# EAGLE library part MSP430FR6989LAUNCHPAD (library stephen)
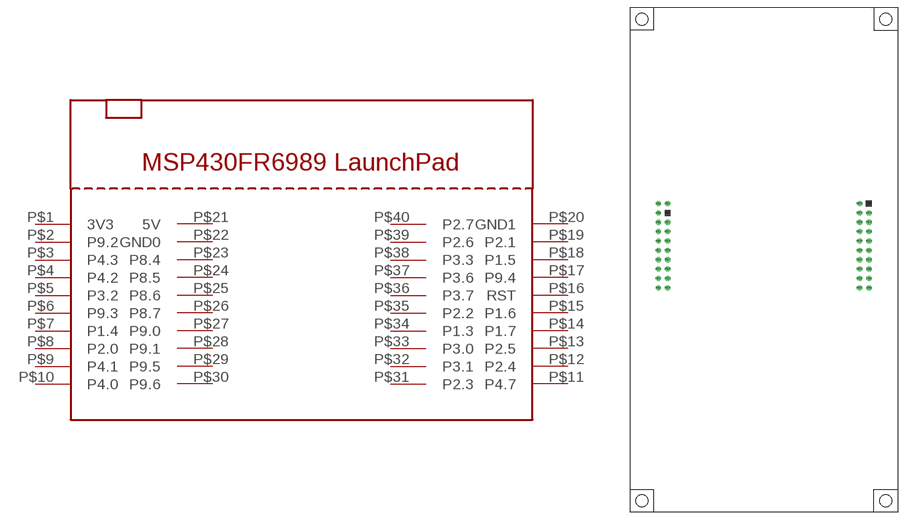
[diagram p1: symbol with the pads of MSP430FR6989LAUNCHPAD; footprint MSP430FR6989LAUNCHPAD]

Designator prefix -

## MSP430FR6989LAUNCHPAD  [MSP430FR6989LAUNCHPAD]
P$1  3V3
P$2  P9.2
P$3  P4.3
P$4  P4.2
P$5  P3.2
P$6  P9.3
P$7  P1.4
P$8  P2.0
P$9  P4.1
P$10  P4.0
P$11  P4.7
P$12  P2.4
P$13  P2.5
P$14  P1.7
P$15  P1.6
P$16  RST
P$17  P9.4
P$18  P1.5
P$19  P2.1
P$20  GND1
P$21  5V
P$22  GND0
P$23  P8.4
P$24  P8.5
P$25  P8.6
P$26  P8.7
P$27  P9.0
P$28  P9.1
P$29  P9.5
P$30  P9.6
P$31  P2.3
P$32  P3.1
P$33  P3.0
P$34  P1.3
P$35  P2.2
P$36  P3.7
P$37  P3.6
P$38  P3.3
P$39  P2.6
P$40  P2.7

## Footprint MSP430FR6989LAUNCHPAD (pad centres in mm)
drill 0.6 octagon: P$1 6,66; P$2 6,48; P$3 6,64; P$4 51,48; P$5 6,62; P$6 51,50; P$7 6,60; P$8 51,52; P$9 6,58; P$10 51,54; P$11 6,56; P$12 51,56; P$13 6,54; P$14 51,58; P$15 6,52; P$16 51,60; P$17 6,50; P$18 51,62; P$19 51,64; P$20 51,66; P$21 8,66; P$22 8,64; P$23 8,62; P$24 8,60; P$25 8,58; P$26 8,56; P$27 8,54; P$28 8,52; P$29 8,50; P$30 8,48; P$31 49,48; P$32 49,50; P$33 49,52; P$34 49,54; P$35 49,56; P$36 49,58; P$37 49,60; P$38 49,62; P$39 49,64; P$40 49,66